# Altium footprint library CL10B105KA8NNNC.PcbLib: 3 footprints
Each footprint in its own frame and in the unit in brackets; x right, y up, seen from the top. Pads: shape width x height; smd on the part's side, far side on the other; paste and mask are expansions set on the pad; w line width, h text height; cw(c..) or ccw(c..) is an arc to the next point about the centre after c.
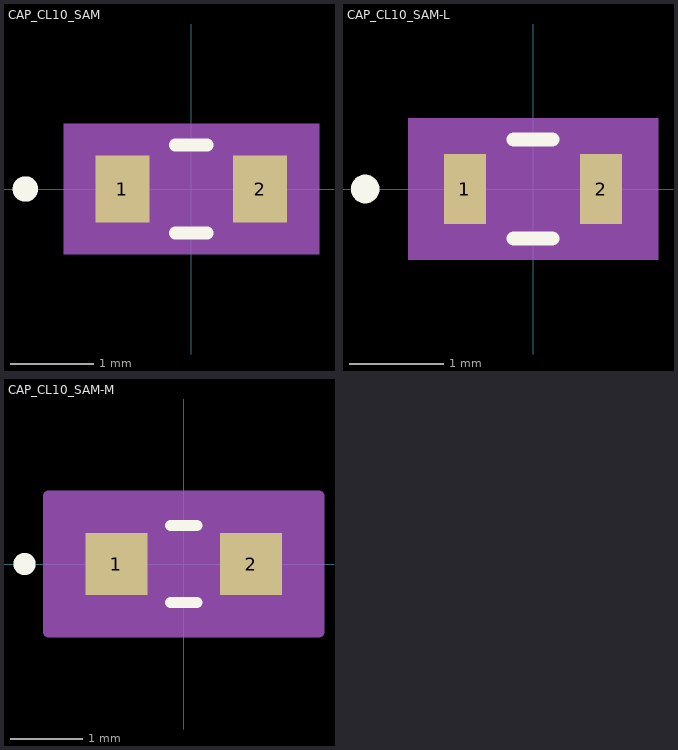
[diagram p0: the footprints below, top view; thin cyan lines are the x and y axes]

## CAP_CL10_SAM [mm]
pads (2):
  rect 0.65x0.8 smd paste+0 mask+0: 1(-0.825,0) 2(0.825,0)
Top Overlay:
  circle w0.152: c-1.988,0 r0.076
  lines w0.152: -0.192,-0.527 0.192,-0.527 ; -0.192,0.527 0.192,0.527
Mechanical 5:
  region: 1.531,-0.781 -1.531,-0.781 -1.531,0.781 1.531,0.781
Mechanical 13:
  circle w0: c-0.698,0 r0.076
  lines w0.025: -0.8,-0.4 -0.8,0.4 ; -0.8,-0.4 -0.5,-0.4 -0.5,0.4 -0.8,0.4 ; -0.8,-0.4 0.8,-0.4 ; -0.8,-0.4 -0.8,0.4 ; -0.8,0.4 0.8,0.4 ; 0.8,-0.4 0.5,-0.4 0.5,0.4 0.8,0.4 ; 0.8,-0.4 0.8,0.4 ; 0.8,-0.4 0.8,0.4
Mechanical 15:
  region: 1.404,-0.654 -1.404,-0.654 -1.404,0.654 1.404,0.654
  lines w0.152: -1.404,-0.654 -1.404,0.654 1.404,0.654 1.404,-0.654 -1.404,-0.654
3D body "CAP_CL10_SAM.step": height 0.9, standoff 0, extent -0.8,-0.4 0.8,0.4

## CAP_CL10_SAM-L [mm]
pads (2):
  rect 0.45x0.75 smd paste+0 mask+0: 1(-0.725,0) 2(0.725,0)
Top Overlay:
  circle w0.152: c-1.788,0 r0.076
  lines w0.152: -0.204,-0.527 0.204,-0.527 ; -0.204,0.527 0.204,0.527
Mechanical 5:
  region: 1.331,-0.756 -1.331,-0.756 -1.331,0.756 1.331,0.756
Mechanical 13:
  circle w0: c-0.598,0 r0.076
  lines w0.025: -0.8,-0.4 -0.8,0.4 ; -0.8,-0.4 -0.5,-0.4 -0.5,0.4 -0.8,0.4 ; -0.8,-0.4 0.8,-0.4 ; -0.8,-0.4 -0.8,0.4 ; -0.8,0.4 0.8,0.4 ; 0.8,-0.4 0.5,-0.4 0.5,0.4 0.8,0.4 ; 0.8,-0.4 0.8,0.4 ; 0.8,-0.4 0.8,0.4
Mechanical 15:
  region: 1.052,-0.477 -1.052,-0.477 -1.052,0.477 1.052,0.477
  lines w0.152: -1.052,-0.477 -1.052,0.477 1.052,0.477 1.052,-0.477 -1.052,-0.477
3D body "CAP_CL10_SAM.step": height 0.9, standoff 0, extent -0.8,-0.4 0.8,0.4

## CAP_CL10_SAM-M [mm]
pads (2):
  rect 0.85x0.85 smd paste+0 mask+0: 1(-0.925,0) 2(0.925,0)
Top Overlay:
  circle w0.152: c-2.188,0 r0.076
  lines w0.152: -0.183,-0.527 0.183,-0.527 ; -0.183,0.527 0.183,0.527
Mechanical 5:
  region: 1.731,-0.806 -1.731,-0.806 -1.731,0.806 1.731,0.806
Mechanical 13:
  circle w0: c-0.798,0 r0.076
  lines w0.025: -0.8,-0.4 -0.8,0.4 ; -0.8,-0.4 -0.5,-0.4 -0.5,0.4 -0.8,0.4 ; -0.8,-0.4 0.8,-0.4 ; -0.8,-0.4 -0.8,0.4 ; -0.8,0.4 0.8,0.4 ; 0.8,-0.4 0.5,-0.4 0.5,0.4 0.8,0.4 ; 0.8,-0.4 0.8,0.4 ; 0.8,-0.4 0.8,0.4
Mechanical 15:
  region: 1.858,-0.933 -1.858,-0.933 -1.858,0.933 1.858,0.933
  lines w0.152: -1.858,-0.933 -1.858,0.933 1.858,0.933 1.858,-0.933 -1.858,-0.933
3D body "CAP_CL10_SAM.step": height 0.9, standoff 0, extent -0.8,-0.4 0.8,0.4